# Altium footprint library 15_to_28_Pin.PcbLib: 40 footprints (part 1 of 3)
Each footprint in its own frame and in the unit in brackets; x right, y up, seen from the top. Pads: shape width x height; smd on the part's side, far side on the other; paste and mask are expansions set on the pad; w line width, h text height; cw(c..) or ccw(c..) is an arc to the next point about the centre after c.
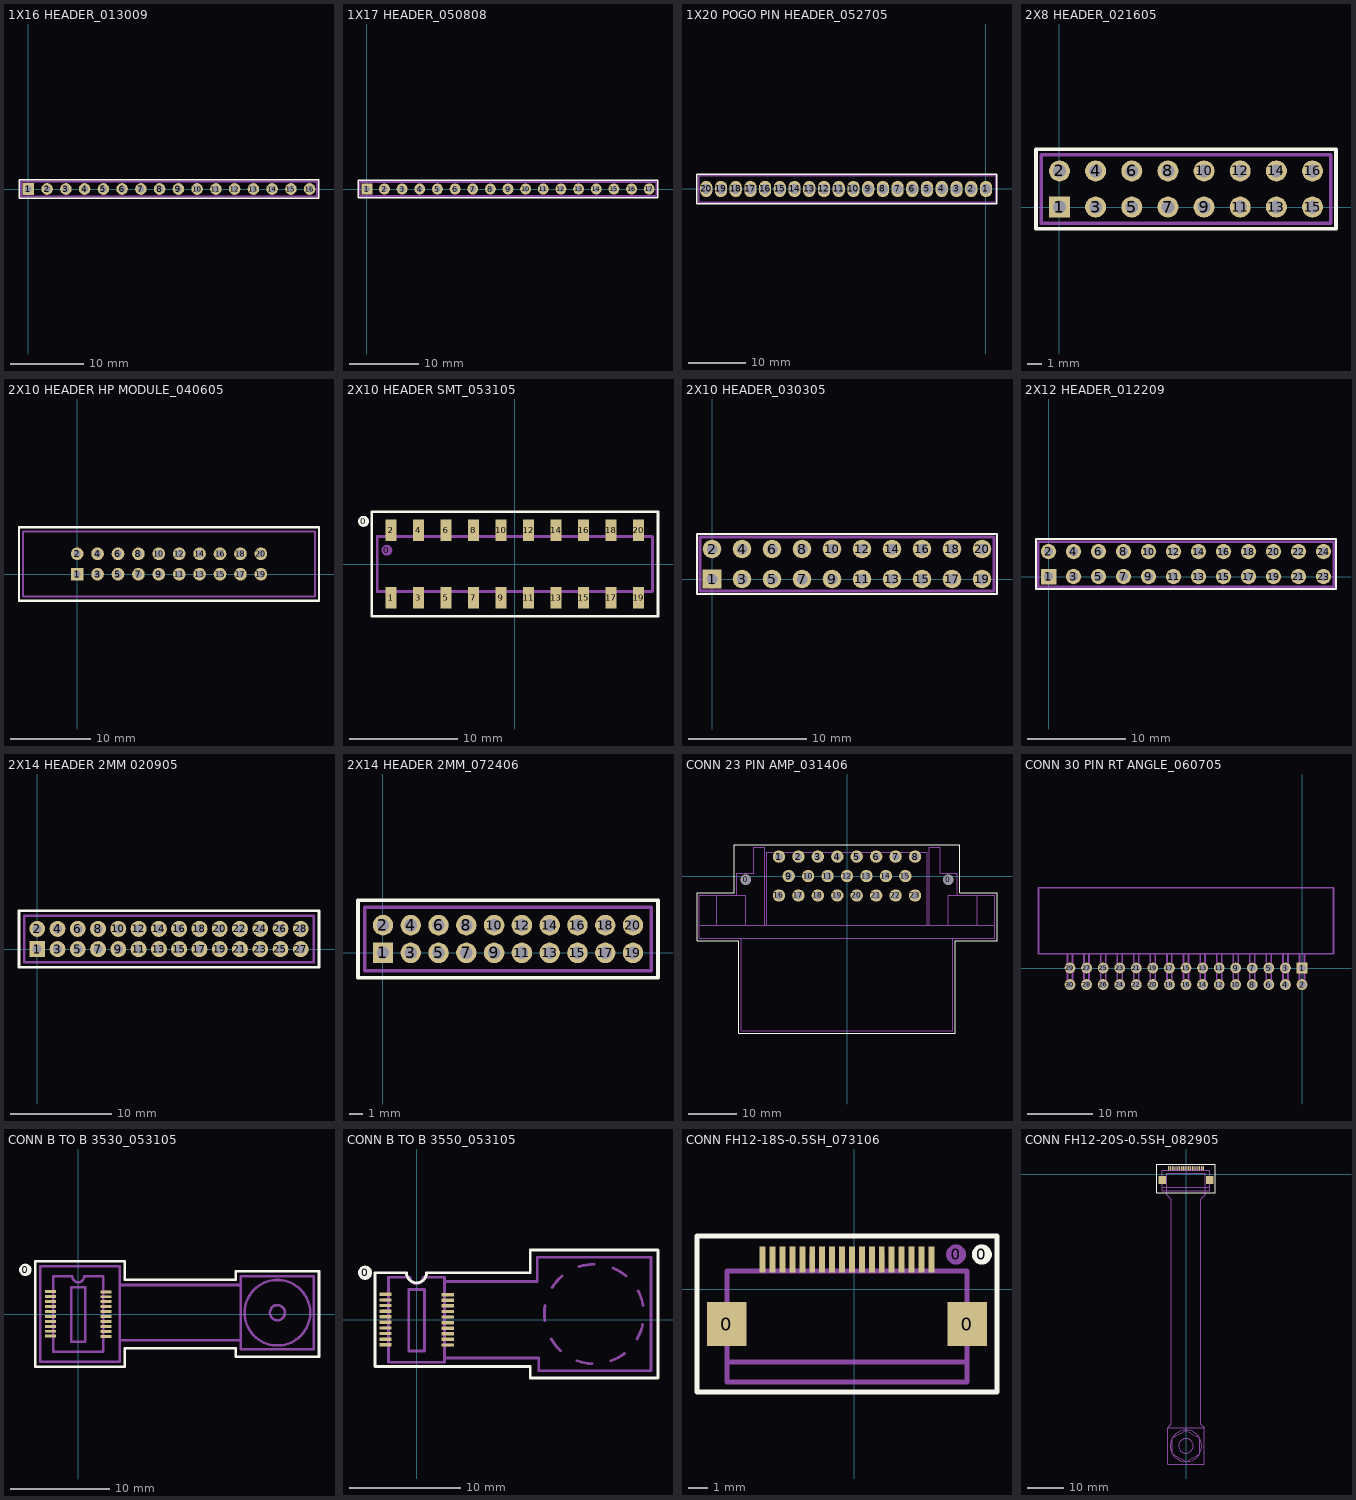
[diagram p0: the footprints below, top view; thin cyan lines are the x and y axes]

## 1X16 HEADER_013009 [mil] "TH"
height 350
pads (16):
  rect 62x62 hole 35: 1(0,0)
  round 62 hole 35: 2(100,0) 3(200,0) 4(300,0) 5(400,0) 6(500,0) 7(600,0) 8(700,0) 9(800,0) 10(900,0) 11(1000,0) 12(1100,0) 13(1200,0) 14(1300,0) 15(1400,0) 16(1500,0)
Top Overlay:
  lines w8: -50,-50 1550,-50 1550,50 -50,50 -50,-50
Assembly Outline:
  lines w8: -12,-13 13,-13 13,12 -12,12 -12,-13 ; 88,-13 113,-13 113,12 88,12 88,-13 ; 188,-13 213,-13 213,12 188,12 188,-13 ; 288,-13 313,-13 313,12 288,12 288,-13 ; 388,-13 413,-13 413,12 388,12 388,-13 ; 488,-13 513,-13 513,12 488,12 488,-13 ; 588,-13 613,-13 613,12 588,12 588,-13 ; 688,-13 713,-13 713,12 688,12 688,-13 ; 788,-13 813,-13 813,12 788,12 788,-13 ; 888,-13 913,-13 913,12 888,12 888,-13 ; 988,-13 988,12 1013,12 1013,-13 988,-13 ; 1088,-13 1113,-13 1113,12 1088,12 1088,-13 ; 1188,-13 1213,-13 1213,12 1188,12 1188,-13 ; 1288,-13 1313,-13 1313,12 1288,12 1288,-13 ; 1388,-13 1413,-13 1413,12 1388,12 1388,-13 ; 1488,-13 1513,-13 1513,12 1488,12 1488,-13
  lines w10: -40.01,-40 -40.01,40 1539.99,40 1539.99,-40 -40.01,-40
  text "1" at 20,70 h50
Assembly Designator:
  text ".Designator" at 40,73 h40
Assembly Comment:
  text ".Comment" at 48,-101 h40

## 1X17 HEADER_050808 [mil] "TH"
height 350
pads (17):
  rect 62x62 hole 35: 1(0,0)
  round 62 hole 35: 2(100,0) 3(200,0) 4(300,0) 5(400,0) 6(500,0) 7(600,0) 8(700,0) 9(800,0) 10(900,0) 11(1000,0) 12(1100,0) 13(1200,0) 14(1300,0) 15(1400,0) 16(1500,0) 17(1600,0)
Top Overlay:
  lines w8: -50,-50 -50,50 1650,50 1650,-50 -50,-50
Assembly Outline:
  lines w8: -12,-13 -12,12 13,12 13,-13 -12,-13 ; 88,-13 88,12 113,12 113,-13 88,-13 ; 188,-13 188,12 213,12 213,-13 188,-13 ; 288,-13 288,12 313,12 313,-13 288,-13 ; 388,-13 388,12 413,12 413,-13 388,-13 ; 488,-13 488,12 513,12 513,-13 488,-13 ; 588,-13 588,12 613,12 613,-13 588,-13 ; 688,-13 688,12 713,12 713,-13 688,-13 ; 788,-13 788,12 813,12 813,-13 788,-13 ; 888,-13 888,12 913,12 913,-13 888,-13 ; 988,-13 1013,-13 1013,12 988,12 988,-13 ; 1088,-13 1088,12 1113,12 1113,-13 1088,-13 ; 1188,-13 1188,12 1213,12 1213,-13 1188,-13 ; 1288,-13 1288,12 1313,12 1313,-13 1288,-13 ; 1388,-13 1388,12 1413,12 1413,-13 1388,-13 ; 1488,-13 1488,12 1513,12 1513,-13 1488,-13 ; 1588,-13 1588,12 1613,12 1613,-13 1588,-13
  lines w10: -40.01,-40 1639.99,-40 1639.99,40 -40.01,40 -40.01,-40
  text "1" at 20,70 h50
Assembly Designator:
  text ".Designator" at 40,73 h40
Assembly Comment:
  text ".Comment" at 48,-101 h40

## 1X20 POGO PIN HEADER_052705 [mil] "TH"
height 350
pads (20):
  oval 83x110 hole 68: 1(0,0) 2(-100,0) 3(-200,0) 4(-300,0) 5(-400,0) 6(-500,0) 7(-600,0) 8(-700,0) 9(-800,0) 10(-900,0) 11(-1000,0) 12(-1100,0) 13(-1200,0) 14(-1300,0) 15(-1400,0) 16(-1499.99,0.99) 17(-1600,0) 18(-1700,0) 19(-1800,0) 20(-1900,0)
Top Overlay:
  lines w10: -1962.51,-100 -1962.51,100 -1900,100 75,100 75,-100 -1962.51,-100
Assembly Outline:
  lines w10: -1950,-90 -1950,90 65,90 65,-90 -1950,-90
Assembly Designator:
  text ".Designator" at -995,120 h40
Assembly Comment:
  text ".Comment" at -1020,-160 h40

## 2X8 HEADER_021605 [mil] "TH"
height 350
pads (16):
  rect 58x58 hole 35: 1(0,0)
  round 58 hole 35: 2(0,100) 3(100,0) 4(100,100) 5(200,0) 6(200,100) 7(300,0) 8(300,100) 9(400,0) 10(400,100) 11(500,0) 12(500,100) 13(600,0) 14(600,100) 15(700,0) 16(700,100)
Top Overlay:
  lines w10: -65,-60 765,-60 765,160 40,160 -65,160 -65,-60
Assembly Outline:
  rectangle: -9,-9 9,9
  rectangle: -9,91 9,109
  rectangle: 91,91 109,109
  rectangle: 91,-9 109,9
  rectangle: 191,91 209,109
  rectangle: 191,-9 209,9
  rectangle: 291,91 309,109
  rectangle: 291,-9 309,9
  rectangle: 391,91 409,109
  rectangle: 391,-9 409,9
  rectangle: 491,91 509,109
  rectangle: 491,-9 509,9
  rectangle: 591,91 609,109
  rectangle: 591,-9 609,9
  rectangle: 691,91 709,109
  rectangle: 691,-9 709,9
  lines w10: -50,-45 750,-45 750,145 -50,145 -50,0 -50,-45
Assembly Designator:
  text ".Designator" at 261,32 h40
Assembly Comment:
  text ".Comment" at -21,-100 h40

## 2X10 HEADER HP MODULE_040605 [mil] "TH"
height 280
pads (20):
  rect 62x62 hole 35: 1(0,0)
  round 62 hole 35: 2(0,100) 3(100,0) 4(100,100) 5(200,0) 6(200,100) 7(300,0) 8(300,100) 9(400,0) 10(400,100) 11(500,0) 12(500,100) 13(600,0) 14(600,100) 15(700,0) 16(700,100) 17(800,0) 18(800,100) 19(900,0) 20(900,100)
Top Overlay:
  lines w10: -285,-130 -285,50 -285,230 1140,230 1185,230 1185,50 1185,-130 -240,-130 -285,-130
Assembly Outline:
  lines w10: -265,-110 1165,-110 1165,50 1165,210 -265,210 -265,50 -265,-110
Assembly Designator:
  text ".Designator" at 355,60 h40
Assembly Comment:
  text ".Comment" at 355,0 h40

## 2X10 HEADER SMT_053105 [mil] "SMT"
height 350
pads (22):
  round 40 on Top Overlay: 0(-550,155)
  round 40 on Mech1: 0(-465,50)
  rect 40x78 smd: 1(-450,-122.5) 2(-450,122.5) 3(-350,-122.5) 4(-350,122.5) 5(-250,-122.5) 6(-250,122.5) 7(-150,-122.5) 8(-150,122.5) 9(-50,-122.5) 10(-50,122.5) 11(50,-122.5) 12(50,122.5) 13(150,-122.5) 14(150,122.5) 15(250,-122.5) 16(250,122.5) 17(350,-122.5) 18(350,122.5) 19(450,-122.5) 20(450,122.5)
Top Overlay:
  lines w10: -520,-190 -520,0 -520,190 500,190 520,190 520,0 520,-190 500,-190 -520,-190
Assembly Outline:
  lines w10: -500,-100 500,-100 500,100 -500,100 -500,-100 ; -460,-140 -460,-100 -440,-100 -440,-140 -450,-140 -460,-140 ; -460,100 -460,140 -450,140 -440,140 -440,100 -460,100 ; -360,-140 -360,-100 -340,-100 -340,-140 -350,-140 -360,-140 ; -360,100 -360,140 -350,140 -340,140 -340,100 -360,100 ; -260,-140 -260,-100 -240,-100 -240,-140 -250,-140 -260,-140 ; -260,100 -260,140 -250,140 -240,140 -240,100 -260,100 ; -160,-140 -160,-100 -140,-100 -140,-140 -150,-140 -160,-140 ; -160,100 -160,140 -150,140 -140,140 -140,100 -160,100 ; -60,-140 -60,-100 -40,-100 -40,-140 -50,-140 -60,-140 ; -60,100 -60,140 -50,140 -40,140 -40,100 -60,100 ; 40,-140 40,-100 60,-100 60,-140 50,-140 40,-140 ; 40,100 40,140 50,140 60,140 60,100 40,100 ; 140,-140 140,-100 160,-100 160,-140 150,-140 140,-140 ; 140,100 140,140 150,140 160,140 160,100 140,100 ; 240,-140 240,-100 260,-100 260,-140 250,-140 240,-140 ; 240,100 240,140 250,140 260,140 260,100 240,100 ; 340,-140 340,-100 360,-100 360,-140 350,-140 340,-140 ; 340,100 340,140 350,140 360,140 360,100 340,100 ; 440,-140 440,-100 460,-100 460,-140 450,-140 440,-140 ; 440,100 440,140 450,140 460,140 460,100 440,100
Assembly Designator:
  text ".Designator" at -35.43,27.56 h40
Assembly Comment:
  text ".Comment" at -114.17,-35.43 h40

## 2X10 HEADER_030305 [mil] "TH"
height 350
pads (20):
  rect 62x62 hole 35: 1(0,0)
  round 62 hole 35: 2(0,100) 3(100,0) 4(100,100) 5(200,0) 6(200,100) 7(300,0) 8(300,100) 9(400,0) 10(400,100) 11(500,0) 12(500,100) 13(600,0) 14(600,100) 15(700,0) 16(700,100) 17(800,0) 18(800,100) 19(900,0) 20(900,100)
Top Overlay:
  lines w8: -50,-50 -50,150 25,150 950,150 950,-50 25,-50 -50,-50
Assembly Outline:
  lines w8: -12,-13 13,-13 13,12 -12,12 -12,-13 ; -12,87 -12,112 13,112 13,87 -12,87 ; 88,-13 113,-13 113,12 88,12 88,-13 ; 88,87 113,87 113,112 88,112 88,87 ; 188,-13 213,-13 213,12 188,12 188,-13 ; 188,87 213,87 213,112 188,112 188,87 ; 288,-13 313,-13 313,12 288,12 288,-13 ; 288,87 313,87 313,112 288,112 288,87 ; 388,-13 413,-13 413,12 388,12 388,-13 ; 388,87 413,87 413,112 388,112 388,87 ; 488,-13 513,-13 513,12 488,12 488,-13 ; 488,87 513,87 513,112 488,112 488,87 ; 588,-13 613,-13 613,12 588,12 588,-13 ; 588,87 613,87 613,112 588,112 588,87 ; 688,-13 713,-13 713,12 688,12 688,-13 ; 688,87 713,87 713,112 688,112 688,87 ; 788,-13 813,-13 813,12 788,12 788,-13 ; 788,87 813,87 813,112 788,112 788,87 ; 888,-13 913,-13 913,12 888,12 888,-13 ; 888,87 913,87 913,112 888,112 888,87
  lines w10: -40.01,-40 -40.01,140 939.99,140 939.99,-40 -40.01,-40
Assembly Designator:
  text ".Designator" at 20,33 h40
Assembly Comment:
  text ".Comment" at 8,-101 h40

## 2X12 HEADER_012209 [mil] "TH"
height 350
pads (24):
  rect 62x62 hole 35: 1(0,0)
  round 62 hole 35: 2(0,100) 3(100,0) 4(100,100) 5(200,0) 6(200,100) 7(300,0) 8(300,100) 9(400,0) 10(400,100) 11(500,0) 12(500,100) 13(600,0) 14(600,100) 15(700,0) 16(700,100) 17(800,0) 18(800,100) 19(900,0) 20(900,100) 21(1000,0) 22(1000,100) 23(1100,0) 24(1100,100)
Top Overlay:
  lines w8: -50,-50 -50,150 25,150 1150,150 1150,-50 25,-50 -50,-50
Assembly Outline:
  lines w8: -12,-13 13,-13 13,12 -12,12 -12,-13 ; -12,87 -12,112 13,112 13,87 -12,87 ; 88,-13 113,-13 113,12 88,12 88,-13 ; 88,87 113,87 113,112 88,112 88,87 ; 188,-13 213,-13 213,12 188,12 188,-13 ; 188,87 213,87 213,112 188,112 188,87 ; 288,-13 313,-13 313,12 288,12 288,-13 ; 288,87 313,87 313,112 288,112 288,87 ; 388,-13 413,-13 413,12 388,12 388,-13 ; 388,87 413,87 413,112 388,112 388,87 ; 488,-13 513,-13 513,12 488,12 488,-13 ; 488,87 513,87 513,112 488,112 488,87 ; 588,-13 613,-13 613,12 588,12 588,-13 ; 588,87 613,87 613,112 588,112 588,87 ; 688,-13 713,-13 713,12 688,12 688,-13 ; 688,87 713,87 713,112 688,112 688,87 ; 788,-13 813,-13 813,12 788,12 788,-13 ; 788,87 813,87 813,112 788,112 788,87 ; 888,-13 913,-13 913,12 888,12 888,-13 ; 888,87 913,87 913,112 888,112 888,87 ; 988,-13 988,12 1013,12 1013,-13 988,-13 ; 988,87 988,112 1013,112 1013,87 988,87 ; 1088,-13 1088,12 1113,12 1113,-13 1088,-13 ; 1088,87 1088,112 1113,112 1113,87 1088,87
  lines w10: -40.01,-40 -40.01,140 1140,140 1140,-40 -40.01,-40
Assembly Designator:
  text ".Designator" at 20,33 h40
Assembly Comment:
  text ".Comment" at 8,-101 h40

## 2X14 HEADER 2MM 020905 [mil] "TH"
height 250
pads (28):
  rect 62x62 hole 35: 1(0,0)
  round 62 hole 35: 2(0,78.74) 3(78.74,0) 4(78.74,78.74) 5(157.48,0) 6(157.48,78.74) 7(236.22,0) 8(236.22,78.74) 9(314.96,0) 10(314.96,78.74) 11(393.7,0) 12(393.7,78.74) 13(472.44,0) 14(472.44,78.74) 15(551.18,0) 16(551.18,78.74) 17(629.92,0) 18(629.92,78.74) 19(708.66,0) 20(708.66,78.74) 21(787.4,0) 22(787.4,78.74) 23(866.14,0) 24(866.14,78.74) 25(944.88,0) 26(944.88,78.74) 27(1023.62,0) 28(1023.62,78.74)
Top Overlay:
  lines w10: -70.87,-70.87 1094.49,-70.87 1094.49,149.61 736.22,149.61 -70.87,149.61 -70.87,-70.87
Assembly Outline:
  lines w10: -51.18,-51.18 -51.18,39.37 -51.18,129.92 31.5,129.92 677.16,129.92 1074.8,129.92 1074.8,39.37 1074.8,-51.18 673.23,-51.18 35.43,-51.18 -51.18,-51.18 ; -12,-12 12,-12 12,11 -12,11 -12,-12 ; -12,66.74 12,66.74 12,89.74 -12,89.74 -12,66.74 ; 66.74,-12 90.74,-12 90.74,11 66.74,11 66.74,-12 ; 66.74,66.74 90.74,66.74 90.74,89.74 66.74,89.74 66.74,66.74 ; 145.48,-12 169.48,-12 169.48,11 145.48,11 145.48,-12 ; 145.48,66.74 169.48,66.74 169.48,89.74 145.48,89.74 145.48,66.74 ; 224.22,-12 248.22,-12 248.22,11 224.22,11 224.22,-12 ; 224.22,66.74 248.22,66.74 248.22,89.74 224.22,89.74 224.22,66.74 ; 302.96,-12 326.96,-12 326.96,11 302.96,11 302.96,-12 ; 302.96,66.74 326.96,66.74 326.96,89.74 302.96,89.74 302.96,66.74 ; 381.7,-12 405.7,-12 405.7,11 381.7,11 381.7,-12 ; 381.7,66.74 405.7,66.74 405.7,89.74 381.7,89.74 381.7,66.74 ; 460.44,-12 484.44,-12 484.44,11 460.44,11 460.44,-12 ; 460.44,66.74 484.44,66.74 484.44,89.74 460.44,89.74 460.44,66.74 ; 539.18,-12 563.18,-12 563.18,11 539.18,11 539.18,-12 ; 539.18,66.74 563.18,66.74 563.18,89.74 539.18,89.74 539.18,66.74 ; 617.92,-12 641.92,-12 641.92,11 617.92,11 617.92,-12 ; 617.92,66.74 641.92,66.74 641.92,89.74 617.92,89.74 617.92,66.74 ; 696.66,-12 720.66,-12 720.66,11 696.66,11 696.66,-12 ; 696.66,66.74 720.66,66.74 720.66,89.74 696.66,89.74 696.66,66.74 ; 775.4,-12 799.4,-12 799.4,11 775.4,11 775.4,-12 ; 775.4,66.74 799.4,66.74 799.4,89.74 775.4,89.74 775.4,66.74 ; 854.14,-12 878.14,-12 878.14,11 854.14,11 854.14,-12 ; 854.14,66.74 878.14,66.74 878.14,89.74 854.14,89.74 854.14,66.74 ; 932.88,-12 956.88,-12 956.88,11 932.88,11 932.88,-12 ; 932.88,66.74 956.88,66.74 956.88,89.74 932.88,89.74 932.88,66.74 ; 1011.62,-12 1035.62,-12 1035.62,11 1011.62,11 1011.62,-12 ; 1011.62,66.74 1035.62,66.74 1035.62,89.74 1011.62,89.74 1011.62,66.74
Assembly Designator:
  text ".Designator" at -3,26 h40
Assembly Comment:
  text ".Comment" at -6,-110 h40

## 2X14 HEADER 2MM_072406 [mil] "TH"
height 250
pads (20):
  rect 58x58 hole 35: 1(0,0)
  round 58 hole 35: 2(0,78.74) 3(78.74,0) 4(78.74,78.74) 5(157.48,0) 6(157.48,78.74) 7(236.22,0) 8(236.22,78.74) 9(314.96,0) 10(314.96,78.74) 11(393.7,0) 12(393.7,78.74) 13(472.44,0) 14(472.44,78.74) 15(551.18,0) 16(551.18,78.74) 17(629.92,0) 18(629.92,78.74) 19(708.66,0) 20(708.66,78.74)
Top Overlay:
  lines w10: -70.87,-70.87 -70.87,149.61 779.53,149.61 779.53,-70.87 -70.87,-70.87
Assembly Outline:
  lines w10: -51.18,-51.18 35.43,-51.18 673.23,-51.18 759.84,-51.18 759.84,39.37 759.84,129.92 677.16,129.92 31.5,129.92 -51.18,129.92 -51.18,39.37 -51.18,-51.18 ; -12,-12 -12,11 12,11 12,-12 -12,-12 ; -12,66.74 -12,89.74 12,89.74 12,66.74 -12,66.74 ; 66.74,-12 66.74,11 90.74,11 90.74,-12 66.74,-12 ; 66.74,66.74 66.74,89.74 90.74,89.74 90.74,66.74 66.74,66.74 ; 145.48,-12 145.48,11 169.48,11 169.48,-12 145.48,-12 ; 145.48,66.74 145.48,89.74 169.48,89.74 169.48,66.74 145.48,66.74 ; 224.22,-12 224.22,11 248.22,11 248.22,-12 224.22,-12 ; 224.22,66.74 224.22,89.74 248.22,89.74 248.22,66.74 224.22,66.74 ; 302.96,-12 302.96,11 326.96,11 326.96,-12 302.96,-12 ; 302.96,66.74 302.96,89.74 326.96,89.74 326.96,66.74 302.96,66.74 ; 381.7,-12 381.7,11 405.7,11 405.7,-12 381.7,-12 ; 381.7,66.74 381.7,89.74 405.7,89.74 405.7,66.74 381.7,66.74 ; 460.44,-12 460.44,11 484.44,11 484.44,-12 460.44,-12 ; 460.44,66.74 460.44,89.74 484.44,89.74 484.44,66.74 460.44,66.74 ; 539.18,-12 539.18,11 563.18,11 563.18,-12 539.18,-12 ; 539.18,66.74 539.18,89.74 563.18,89.74 563.18,66.74 539.18,66.74 ; 617.92,-12 617.92,11 641.92,11 641.92,-12 617.92,-12 ; 617.92,66.74 617.92,89.74 641.92,89.74 641.92,66.74 617.92,66.74 ; 696.66,-12 696.66,11 720.66,11 720.66,-12 696.66,-12 ; 696.66,66.74 696.66,89.74 720.66,89.74 720.66,66.74 696.66,66.74
Assembly Designator:
  text ".Designator" at -3,26 h40
Assembly Comment:
  text ".Comment" at -6,-110 h40

## CONN 23 PIN AMP_031406 [mm] "TH"
height 31.75
pads (25):
  round 2.083 hole 2.083: 0(-20.828,-0.762) 0(20.828,-0.762)
  round 2.54 hole 1.575: 1(-14,4) 2(-10,4) 3(-6,4) 4(-2,4) 5(2,4) 6(6,4) 7(10,4) 8(14,4) 9(-12,0) 10(-8,0) 11(-4,0) 12(0,0) 13(4,0) 14(8,0) 15(12,0) 16(-14,-4) 17(-10,-4) 18(-6,-4) 19(-2,-4) 20(2,-4) 21(6,-4) 22(10,-4) 23(14,-4)
Top Overlay:
  lines w0.254: -30.861,-13.335 -30.861,-3.429 -23.241,-3.429 -23.241,6.477 0,6.477 23.241,6.477 23.241,-3.429 30.861,-3.429 30.861,-13.335 22.225,-13.335 22.225,-32.385 0,-32.385 -22.225,-32.385 -22.225,-13.335 -30.861,-13.335
Assembly Outline:
  lines w0.254: -26.797,-10.096 -26.797,-4 -30.353,-4 ; -19.177,-10.096 -17.653,-10.096 ; -16.891,-10.096 -16.891,5.906 -19.177,5.906 -19.177,0.572 -22.733,0.572 -22.733,-4 -30.353,-4 ; 16.891,-10.096 16.891,5.906 19.177,5.906 19.177,0.572 22.733,0.572 22.733,-4 30.353,-4 ; 17.653,-10.096 19.177,-10.096 ; 26.797,-10.096 26.797,-4 30.353,-4 ; -30.353,-10.096 -30.353,-4 ; -30.353,-10.096 -20.828,-10.096 -20.828,-4 -30.353,-4 ; -30.353,-10.096 -30.353,-12.763 0,-12.763 ; -30.353,-10.096 0,-10.096 ; 0,-12.763 -21.717,-12.763 -21.717,-31.813 0,-31.813 21.717,-31.813 21.717,-12.763 0,-12.763 ; 0,-12.763 30.353,-12.763 30.353,-10.096 ; 0,-10.096 -16.51,-10.096 -16.51,4.89 0,4.89 16.51,4.89 16.51,-10.096 0,-10.096 ; 0,-10.096 30.353,-10.096 ; 30.353,-10.096 30.353,-4 ; 30.353,-10.096 20.828,-10.096 20.828,-4 30.353,-4
Assembly Designator:
  text ".Designator" at -2.032,-8.636 h1.02
Assembly Comment:
  text ".Comment" at -5.588,-6.731 h1.02

## CONN 30 PIN RT ANGLE_060705 [mil] "TH"
height 300
pads (30):
  rect 65x65 hole 45: 1(0,0)
  round 65 hole 45: 2(0,-100) 3(-100,0) 4(-100,-100) 5(-200,0) 6(-200,-100) 7(-300,0) 8(-300,-100) 9(-400,0) 10(-400,-100) 11(-500,0) 12(-500,-100) 13(-600,0) 14(-600,-100) 15(-700,0) 16(-700,-100) 17(-800,0) 18(-800,-100) 19(-900,0) 20(-900,-100) 21(-1000,0) 22(-1000,-100) 23(-1100,0) 24(-1100,-100) 25(-1200,0) 26(-1200,-100) 27(-1300,0) 28(-1300,-100) 29(-1400,0) 30(-1400,-100)
Bottom Overlay:
  lines w10: -1605,70 -1605,500 205,500 205,70 50,70 50,-150 -1450,-150 -1450,70 -1605,70
Assembly Outline:
  lines w10: -1415,0 -1385,0 ; -1400,-100 -1415,-100 ; -1315,0 -1285,0 ; -1300,-100 -1315,-100 ; -1215,0 -1185,0 ; -1200,-100 -1215,-100 ; -1115,0 -1085,0 ; -1100,-100 -1115,-100 ; -1015,0 -985,0 ; -1000,-100 -1015,-100 ; -915,0 -885,0 ; -900,-100 -915,-100 ; -815,0 -785,0 ; -800,-100 -815,-100 ; -715,0 -685,0 ; -715,485 190,485 190,85 -700,85 -1590,85 -1590,485 -685,485 ; -700,-100 -715,-100 ; -615,0 -585,0 ; -600,-100 -615,-100 ; -515,0 -485,0 ; -500,-100 -515,-100 ; -415,0 -385,0 ; -400,-100 -415,-100 ; -315,0 -285,0 ; -300,-100 -315,-100 ; -215,0 -185,0 ; -200,-100 -215,-100 ; -115,0 -85,0 ; -100,-100 -115,-100 ; -15,0 15,0 ; 0,-100 -15,-100 ; -1415,-100 -1415,85 -1385,85 -1385,-100 -1415,-100 ; -1315,-100 -1315,85 -1285,85 -1285,-100 -1315,-100 ; -1215,-100 -1215,85 -1185,85 -1185,-100 -1215,-100 ; -1115,-100 -1115,85 -1085,85 -1085,-100 -1115,-100 ; -1015,-100 -1015,85 -985,85 -985,-100 -1015,-100 ; -915,-100 -915,85 -885,85 -885,-100 -915,-100 ; -815,-100 -815,85 -785,85 -785,-100 -815,-100 ; -715,-100 -715,85 -685,85 -685,-100 -715,-100 ; -615,-100 -615,85 -585,85 -585,-100 -615,-100 ; -515,-100 -515,85 -485,85 -485,-100 -515,-100 ; -415,-100 -415,85 -385,85 -385,-100 -415,-100 ; -315,-100 -315,85 -285,85 -285,-100 -315,-100 ; -215,-100 -215,85 -185,85 -185,-100 -215,-100 ; -115,-100 -115,85 -85,85 -85,-100 -115,-100 ; -15,-100 -15,85 15,85 15,-100 -15,-100
Assembly Designator:
  text ".Designator" at -745,-220 h40
Assembly Comment:
  text ".Comment" at -855,-275 h40

## CONN B TO B 3530_053105 [mm] "SMT FP"
height 1.15
pads (21):
  round 1.27 on Top Overlay paste+0 mask+0: 0(-5.334,4.445)
  rect 1.1x0.3 smd mask+0.051: 1(-2.778,2.263) 2(-2.778,1.763) 3(-2.778,1.263) 4(-2.778,0.763) 5(-2.778,0.263) 6(-2.778,-0.237) 7(-2.778,-0.737) 8(-2.778,-1.237) 9(-2.778,-1.737) 10(-2.778,-2.237) 11(2.778,-2.263) 12(2.778,-1.763) 13(2.778,-1.263) 14(2.778,-0.763) 15(2.778,-0.262) 16(2.778,0.238) 17(2.778,0.738) 18(2.778,1.238) 19(2.778,1.738) 20(2.778,2.238)
Top Overlay:
  lines w0.254: -4.318,-5.334 0,-5.334 4.699,-5.334 4.699,-3.429 15.875,-3.429 15.875,-4.318 24.257,-4.318 24.257,0 24.257,4.318 15.875,4.318 15.875,3.429 4.699,3.429 4.699,5.334 0,5.334 -4.318,5.334 -4.318,0 -4.318,-5.334
Assembly Outline:
  circle w0.254: c20.066,0.127 r0.762
  circle w0.254: c20.066,0.127 r3.302
  lines w0.254: -3,-1.737 -2.5,-1.737 ; -3,-1.237 -2.5,-1.237 ; -3,-0.737 -2.5,-0.737 ; -3,-0.237 -2.5,-0.237 ; -3,0.263 -2.5,0.263 ; -3,0.763 -2.5,0.763 ; -3,1.263 -2.5,1.263 ; -3,1.763 -2.5,1.763 ; -3,2.263 -2.5,2.263 ; 2.5,-2.263 3,-2.263 ; 2.5,-1.763 3,-1.763 ; 2.5,-1.263 3,-1.263 ; 2.5,-0.763 3,-0.763 ; 2.5,-0.262 3,-0.262 ; 2.5,0.238 3,0.238 ; 2.5,0.738 3,0.738 ; 2.5,1.238 3,1.238 ; 2.5,1.738 3,1.738 ; 2.5,2.238 3,2.238 ; 16.383,-2.667 4.191,-2.667 4.191,2.921 ; 4.191,2.921 16.383,2.921 16.383,0.127 ; 4.191,2.921 4.191,4.826 ; 4.191,4.826 4.191,-4.826 -3.81,-4.826 -3.81,0 -3.81,4.826 4.191,4.826 ; 16.383,0.127 16.383,3.81 ; 16.383,0.127 16.383,-3.556 23.749,-3.556 23.749,3.81 16.383,3.81 ; 16.383,0.127 16.383,3.81 ; -2.5,-3.8 -2.5,3.8 -0.6,3.8 ccw(c0,3.8) 0.6,3.8 2.5,3.8 2.5,0 2.5,-3.8 -2.5,-3.8 ; -0.7,-2.8 -0.7,2.7 0.7,2.7 0.7,0 0.7,-2.8 -0.7,-2.8
Assembly Designator:
  text ".Designator" at -0.889,6.096 h1.02
Assembly Comment:
  text ".Comment" at -1.651,-6.858 h1.02

## CONN B TO B 3550_053105 [mm] "SMT FP"
height 1.15
pads (21):
  round 1.27 on Top Overlay paste+0 mask+0: 0(-4.6,4.2)
  rect 1.1x0.3 smd mask+0.051: 1(-2.778,2.263) 2(-2.778,1.763) 3(-2.778,1.263) 4(-2.778,0.763) 5(-2.778,0.263) 6(-2.778,-0.237) 7(-2.778,-0.737) 8(-2.778,-1.237) 9(-2.778,-1.737) 10(-2.778,-2.237) 11(2.778,-2.263) 12(2.778,-1.763) 13(2.778,-1.263) 14(2.778,-0.763) 15(2.778,-0.262) 16(2.778,0.238) 17(2.778,0.738) 18(2.778,1.238) 19(2.778,1.738) 20(2.778,2.238)
Top Overlay:
  lines w0.254: -3.7,-4.2 -3.7,0 -3.7,4.2 -0.9,4.2 ccw(c0,4.2) 0.9,4.2 3.7,4.2 10.16,4.2 10.16,6.223 21.59,6.223 21.59,-5.207 10.16,-5.207 10.16,-4.2 3.7,-4.2 0,-4.2 -3.7,-4.2
Assembly Outline:
  lines w0.254: -3,-1.737 -2.5,-1.737 ; -3,-1.237 -2.5,-1.237 ; -3,-0.737 -2.5,-0.737 ; -3,-0.237 -2.5,-0.237 ; -3,0.263 -2.5,0.263 ; -3,0.763 -2.5,0.763 ; -3,1.263 -2.5,1.263 ; -3,1.763 -2.5,1.763 ; -3,2.263 -2.5,2.263 ; 2.5,-3.429 10.922,-3.429 10.922,-4.572 20.955,-4.572 20.955,5.588 ; 2.5,-2.263 3,-2.263 ; 2.5,-1.763 3,-1.763 ; 2.5,-1.263 3,-1.263 ; 2.5,-0.763 3,-0.763 ; 2.5,-0.262 3,-0.262 ; 2.5,0.238 3,0.238 ; 2.5,0.738 3,0.738 ; 2.5,1.238 3,1.238 ; 2.5,1.738 3,1.738 ; 2.5,2.238 3,2.238 ; 2.5,3.429 10.795,3.429 10.795,5.588 20.955,5.588 ; 11.47,-0.084 cw(c15.875,0.508) 11.498,1.28 ; 12.026,-1.715 ccw(c15.875,0.508) 12.881,-2.777 ; 12.12,2.886 cw(c15.875,0.508) 13.018,3.913 ; 14.355,-3.669 ccw(c15.875,0.508) 15.693,-3.933 ; 14.527,4.744 cw(c15.875,0.508) 15.875,4.953 ; 15.875,5.588 20.955,5.588 ; 17.395,-3.669 ccw(c15.875,0.508) 18.59,-3.011 ; 17.565,4.619 cw(c15.875,0.508) 18.732,3.913 ; 19.724,-1.715 ccw(c15.875,0.508) 20.217,-0.443 ; 19.812,2.571 cw(c15.875,0.508) 20.252,1.28 ; -2.5,-3.8 2.5,-3.8 2.5,0 2.5,3.8 0.6,3.8 cw(c0,3.8) -0.6,3.8 -2.5,3.8 -2.5,-3.8 ; -0.7,-2.8 0.7,-2.8 0.7,0 0.7,2.7 -0.7,2.7 -0.7,-2.8
Assembly Designator:
  text ".Designator" at -0.8,4.7 h1.02
Assembly Comment:
  text ".Comment" at -1.7,-5.6 h1.02

## CONN FH12-18S-0.5SH_073106 [mm] "SM FP"
height 2
pads (22):
  rect 2x2.2 smd mask+0.025: 0(-6.419,-1.75) 0(5.681,-1.75)
  round 1.016 on Mech1 mask+0.025: 0(5.119,1.75)
  round 1.016 on Top Overlay mask+0.025: 0(6.419,1.75)
  rect 0.3x1.3 smd mask+0.025: 1(3.881,1.5) 2(3.381,1.5) 3(2.881,1.5) 4(2.381,1.5) 5(1.881,1.5) 6(1.381,1.5) 7(0.881,1.5) 8(0.381,1.5) 9(-0.119,1.5) 10(-0.619,1.5) 11(-1.119,1.5) 12(-1.619,1.5) 13(-2.119,1.5) 14(-2.619,1.5) 15(-3.119,1.5) 16(-3.619,1.5) 17(-4.119,1.5) 18(-4.619,1.5)
Top Overlay:
  lines w0.254: -7.819,-5.17 -7.919,-5.17 ; -7.919,-5.17 -7.919,2.68 7.081,2.68 7.181,2.68 7.181,-5.17 7.081,-5.17 -7.919,-5.17
Assembly Outline:
  lines w0.254: -6.419,-2.27 -6.919,-2.27 -6.919,-1.07 -6.419,-1.07 -6.419,0.93 ; -4.619,0.93 -4.619,1.73 ; -4.119,0.93 -4.119,1.73 ; -3.619,0.93 -3.619,1.73 ; -3.119,0.93 -3.119,1.73 ; -2.619,0.93 -2.619,1.73 ; -2.119,0.93 -2.119,1.73 ; -1.619,0.93 -1.619,1.73 ; -1.119,0.93 -1.119,1.73 ; -0.619,0.93 -0.619,1.73 ; -0.119,0.93 -0.119,1.73 ; 0.381,0.93 0.381,1.73 ; 0.881,0.93 0.881,1.73 ; 1.381,0.93 1.381,1.73 ; 1.881,0.93 1.881,1.73 ; 2.381,0.93 2.381,1.73 ; 2.881,0.93 2.881,1.73 ; 3.381,0.93 3.381,1.73 ; 3.881,0.93 3.881,1.73 ; 5.681,-2.27 6.181,-2.27 6.181,-1.07 5.681,-1.07 ; -6.419,0.93 -6.419,-4.67 5.681,-4.67 5.681,-3.67 ; -6.419,0.93 -6.419,-3.67 5.681,-3.67 ; -6.419,0.93 5.681,0.93 5.681,-3.67
Assembly Designator:
  text ".Designator" at -1.738,-1.651 h1.02
Assembly Comment:
  text ".Comment" at -6.564,-4.318 h1.02

## CONN FH12-20S-0.5SH_082905 [mm] "SM FP"
height 2
pads (22):
  rect 2x2.2 smd mask+0.038: 0(-6.55,-1.625) 0(6.55,-1.625)
  rect 0.3x1.3 smd mask+0.038: 1(-4.75,1.625) 2(-4.25,1.625) 3(-3.75,1.625) 4(-3.25,1.625) 5(-2.75,1.625) 6(-2.25,1.625) 7(-1.75,1.625) 8(-1.25,1.625) 9(-0.75,1.625) 10(-0.25,1.625) 11(0.25,1.625) 12(0.75,1.625) 13(1.25,1.625) 14(1.75,1.625) 15(2.25,1.625) 16(2.75,1.625) 17(3.25,1.625) 18(3.75,1.625) 19(4.25,1.625) 20(4.75,1.625)
Top Overlay:
  lines w0.254: -8.05,-5.045 -8.05,2.805 -5,2.805 7.95,2.805 8.05,2.805 8.05,-5.045 7.95,-5.045 -5,-5.045 -8.05,-5.045
Assembly Outline:
  circle w0.254: c-0.006,-74.697 r4.325
  circle w0.254: c-0.006,-74.697 r2
  lines w0.254: -6.55,-2.145 -7.05,-2.145 -7.05,-0.945 -6.55,-0.945 -6.55,1.055 ; -5,1.055 -6.55,1.055 ; -4.75,1.055 -4.75,1.855 ; -4.25,1.055 -4.25,1.855 ; -4.006,-13.222 -4.006,-6.947 ; -3.752,-76.836 -0.007,-78.998 ; -3.75,1.055 -3.75,1.855 ; -3.731,-76.847 -3.731,-72.522 ; -3.731,-72.547 0.015,-70.384 ; -3.25,1.055 -3.25,1.855 ; -2.75,1.055 -2.75,1.855 ; -2.25,1.055 -2.25,1.855 ; -2.081,-79.697 -5.006,-79.697 ; -1.75,1.055 -1.75,1.855 ; -1.25,1.055 -1.25,1.855 ; -0.75,1.055 -0.75,1.855 ; -0.25,1.055 -0.25,1.855 ; -0.027,-79.011 3.718,-76.848 ; -0.006,-70.397 3.74,-72.559 ; 0.25,1.055 0.25,1.855 ; 0.75,1.055 0.75,1.855 ; 1.25,1.055 1.25,1.855 ; 1.75,1.055 1.75,1.855 ; 2.069,-79.697 4.994,-79.697 ; 2.25,1.055 2.25,1.855 ; 2.75,1.055 2.75,1.855 ; 3.25,1.055 3.25,1.855 ; 3.719,-76.872 3.719,-72.547 ; 3.75,1.055 3.75,1.855 ; 3.994,-13.222 3.994,-6.947 ; 4.25,1.055 4.25,1.855 ; 4.75,1.055 4.75,1.855 ; 4.994,-74.697 4.994,-69.697 ; 5.85,-3.545 6.55,-3.545 ; 6.55,-3.945 6.55,-3.545 ; 6.55,-2.145 7.05,-2.145 7.05,-0.945 6.55,-0.945 ; -6.55,-4.545 6.55,-4.545 ; -6.55,-4.545 -6.55,-3.545 ; -6.55,-4.545 -6.55,1.055 ; -6.55,-3.545 6.55,-3.545 ; -6.55,-3.545 -6.55,1.055 ; -6.55,1.055 6.55,1.055 6.55,-3.545 ; -5.006,-79.697 -0.006,-79.697 4.994,-79.697 ; -5.006,-79.697 -5.006,-69.697 ; -5.006,-69.697 -4.006,-68.697 -4.006,-68.447 -4.006,-6.947 ; -5.006,-69.697 -0.006,-69.697 4.994,-69.697 ; -4.006,-6.947 -5.256,-5.697 -5.256,0.303 -0.006,0.303 5.244,0.303 5.244,-5.697 3.994,-6.947 ; 3.994,-6.947 3.994,-68.447 3.994,-68.697 4.994,-69.697 ; 4.994,-79.697 4.994,-69.697 ; 6.55,-4.545 6.55,-3.545 ; 6.55,-4.545 6.55,-3.545
Assembly Designator:
  text ".Designator" at -1.5,-0.75 h1.02
Assembly Comment:
  text ".Comment" at -3.775,-2.4 h1.02